# Altium schematic symbol library LM1117.SchLib: 1 symbol
Pins are listed as number, name and electrical type; pins without a type are passive.

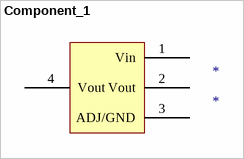
[diagram p0: symbol Component_1]

## Component_1
designator *
footprint SOT230P700X180-4N (SOT223, 4-Leads, Body 6.7x7.3mm (max), Pitch 2.30mm, IPC Medium Density)
pins: 1 Vin, 2 Vout, 3 ADJ/GND, 4 Vout